# EAGLE library part NC7SB3157P6X (library MAÑE)
SPDT Analog Switch
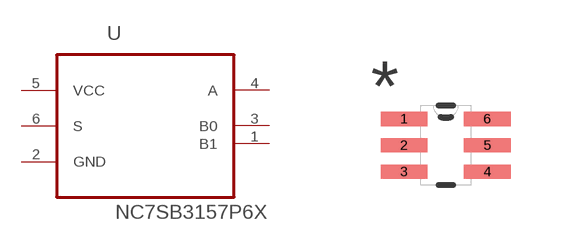
[diagram p21: symbol with the pads of SOT65P210X110-6N; footprint SOT65P210X110-6N]

Designator prefix U

## NC7SB3157P6X (MPN: NC7SB3157P6X; OC_FARNELL: 1607690; OC_NEWARK: 58K9465; PACKAGE: SC-70-6; SUPPLIER: FAIRCHILD SEMICONDUCTOR)  [SOT65P210X110-6N]
1  B1  pas
2  GND  pas
3  B0  pas
4  A  pas
5  VCC  pwr
6  S  in

## Footprint SOT65P210X110-6N (pad centres in mm)
smd 1.168 x 0.356: 1 -1.041,0.66; 2 -1.041,0; 3 -1.041,-0.66; 4 1.041,-0.66; 5 1.041,0; 6 1.041,0.66